# EAGLE library part FCI-MICRO-USB (library DonB)
FCI Industries 10118192-0001LF Micro USB Type B Female SMT connector
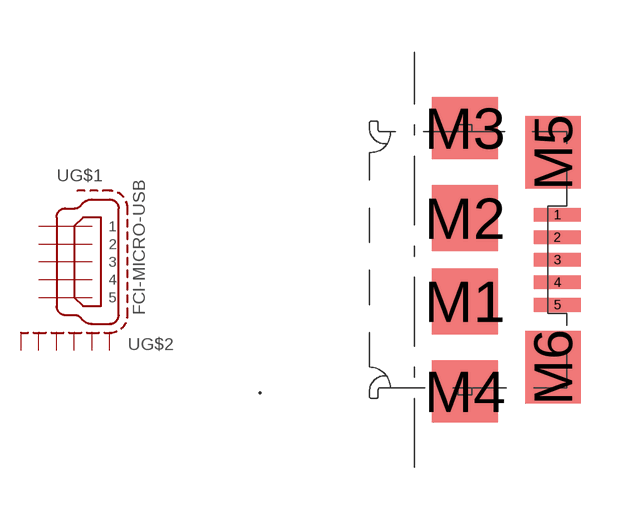
[diagram p2: symbol with the pads of FCI-MICRO-USB5; footprint FCI-MICRO-USB5]

Designator prefix -; gates G$1=MUSB5 G$2=SHIELD_6

## FCI-MICRO-USB  [FCI-MICRO-USB5]
1  G$1:1  pas
2  G$1:2  pas
3  G$1:3  pas
4  G$1:4  pas
5  G$1:5  pas
M1  G$2:S1  pas
M2  G$2:S2  pas
M3  G$2:S3  pas
M4  G$2:S4  pas
M5  G$2:S5  pas
M6  G$2:S6  pas

## Footprint FCI-MICRO-USB5 (pad centres in mm)
smd 1.35 x 0.4: 1 2.675,1.3; 2 2.675,0.65; 3 2.675,0; 4 2.675,-0.65; 5 2.675,-1.3
smd 1.9 x 1.9: M1 0,-1.2; M2 0,1.2
smd 1.9 x 1.8: M3 0,3.8; M4 0,-3.8
smd 1.6 x 2.1: M5 2.55,3.1; M6 2.55,-3.1